# EAGLE library part B7B-PH-K-S (library pixel_masterlib)
7 Positions Header Connector 2.00mm, Through Hole, Side SMD
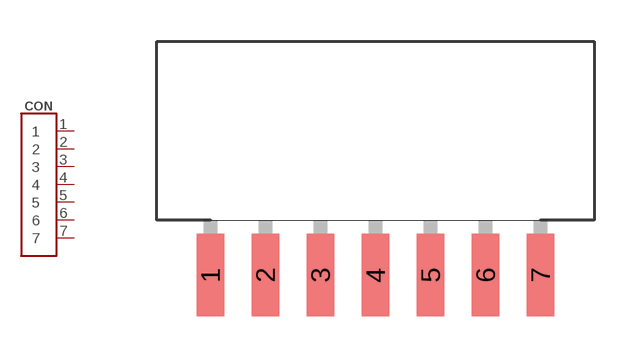
[diagram p11: symbol with the pads of B7B-PH-K-S_SIDE; footprint B7B-PH-K-S_SIDE]

Designator prefix CON

## B7B-PH-K-S-SIDE (CHIPDIP#: 9000325603; DIGIKEY#: 455-1709-ND; FARNELL#: 9491864; MANF#: B7B-PH-K-S(LF)(SN); TME#: B7B-PH-K-S)  [B7B-PH-K-S_SIDE]
1  1
2  2
3  3
4  4
5  5
6  6
7  7

## Footprint B7B-PH-K-S_SIDE (pad centres in mm)
smd 1 x 3: 1 -6,-0.25; 2 -4,-0.25; 3 -2,-0.25; 4 0,-0.25; 5 2,-0.25; 6 4,-0.25; 7 6,-0.25